# Altium footprint library SSOP-28.PcbLib: 1 footprints
Each footprint in its own frame and in the unit in brackets; x right, y up, seen from the top. Pads: shape width x height; smd on the part's side, far side on the other; paste and mask are expansions set on the pad; w line width, h text height; cw(c..) or ccw(c..) is an arc to the next point about the centre after c.
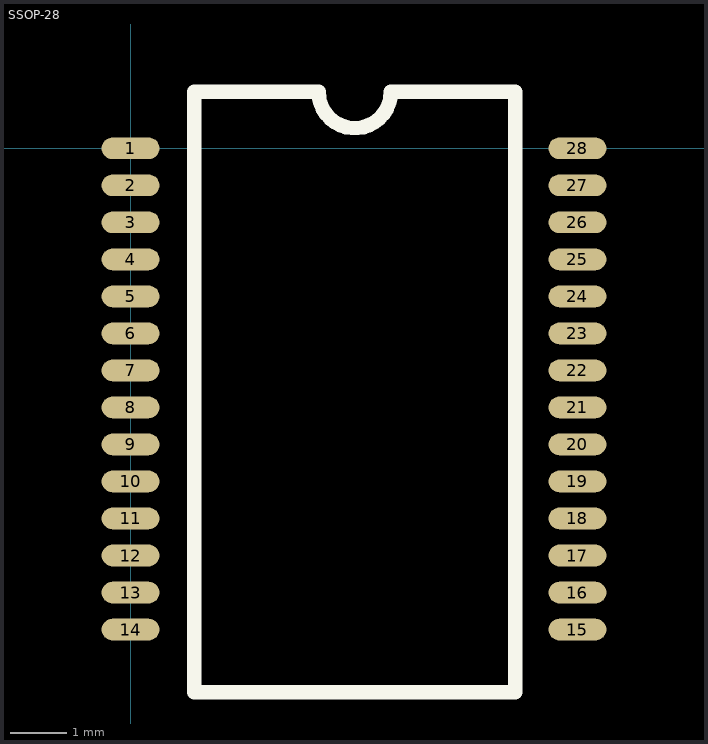
[diagram p0: the footprint, top view; thin cyan lines are the x and y axes]

## SSOP-28 [mil]
pads (28):
  oval 40x15 smd: 1(0,0) 2(0,-25.59) 3(0,-51.18) 4(0,-76.77) 5(0,-102.36) 6(0,-127.95) 7(0,-153.54) 8(0,-179.13) 9(0,-204.72) 10(0,-230.31) 11(0,-255.91) 12(0,-281.5) 13(0,-307.09) 14(0,-332.68) 15(309,-332.68) 16(309,-307.09) 17(309,-281.5) 18(309,-255.91) 19(309,-230.31) 20(309,-204.72) 21(309,-179.13) 22(309,-153.54) 23(309,-127.95) 24(309,-102.36) 25(309,-76.77) 26(309,-51.18) 27(309,-25.59) 28(309,0)
TopOverlay:
  lines w10: 44,-376 44,39 130,39 ccw(c155,39) 180,39 266,39 266,-376 44,-376
3D body: height 84.65, standoff 0, extent 2.34,-369.74 307.68,36.96